# EAGLE library part SN74LVC2T45 (library Janus-IC)
Dual-Bit Dual-Supply Bus Transceiver, 3 State Outputs
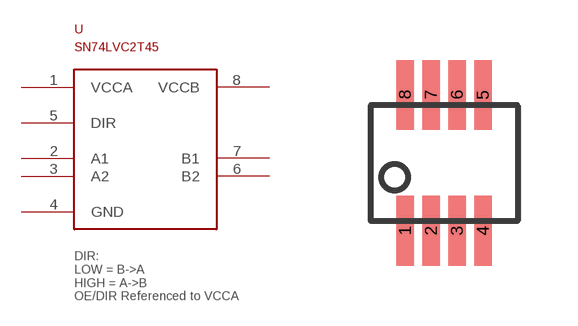
[diagram p5: symbol with the pads of LSSOP-8; footprint LSSOP-8]

Designator prefix U

## SN74LVC2T45DCT  [LSSOP-8]
1  VCCA
2  A1
3  A2
4  GND
5  DIR
6  B2
7  B1
8  VCCB

## Footprint LSSOP-8 (pad centres in mm)
smd 0.44 x 1.74: 1 0,0; 2 0.65,0; 3 1.3,0; 4 1.95,0; 5 1.95,3.4; 6 1.3,3.4; 7 0.65,3.4; 8 0,3.4